# Altium footprint library Altium LCOGT PCB LIB.PCBLIB: 329 footprints (part 17 of 21)
Each footprint in its own frame and in the unit in brackets; x right, y up, seen from the top. Pads: shape width x height; smd on the part's side, far side on the other; paste and mask are expansions set on the pad; w line width, h text height; cw(c..) or ccw(c..) is an arc to the next point about the centre after c.
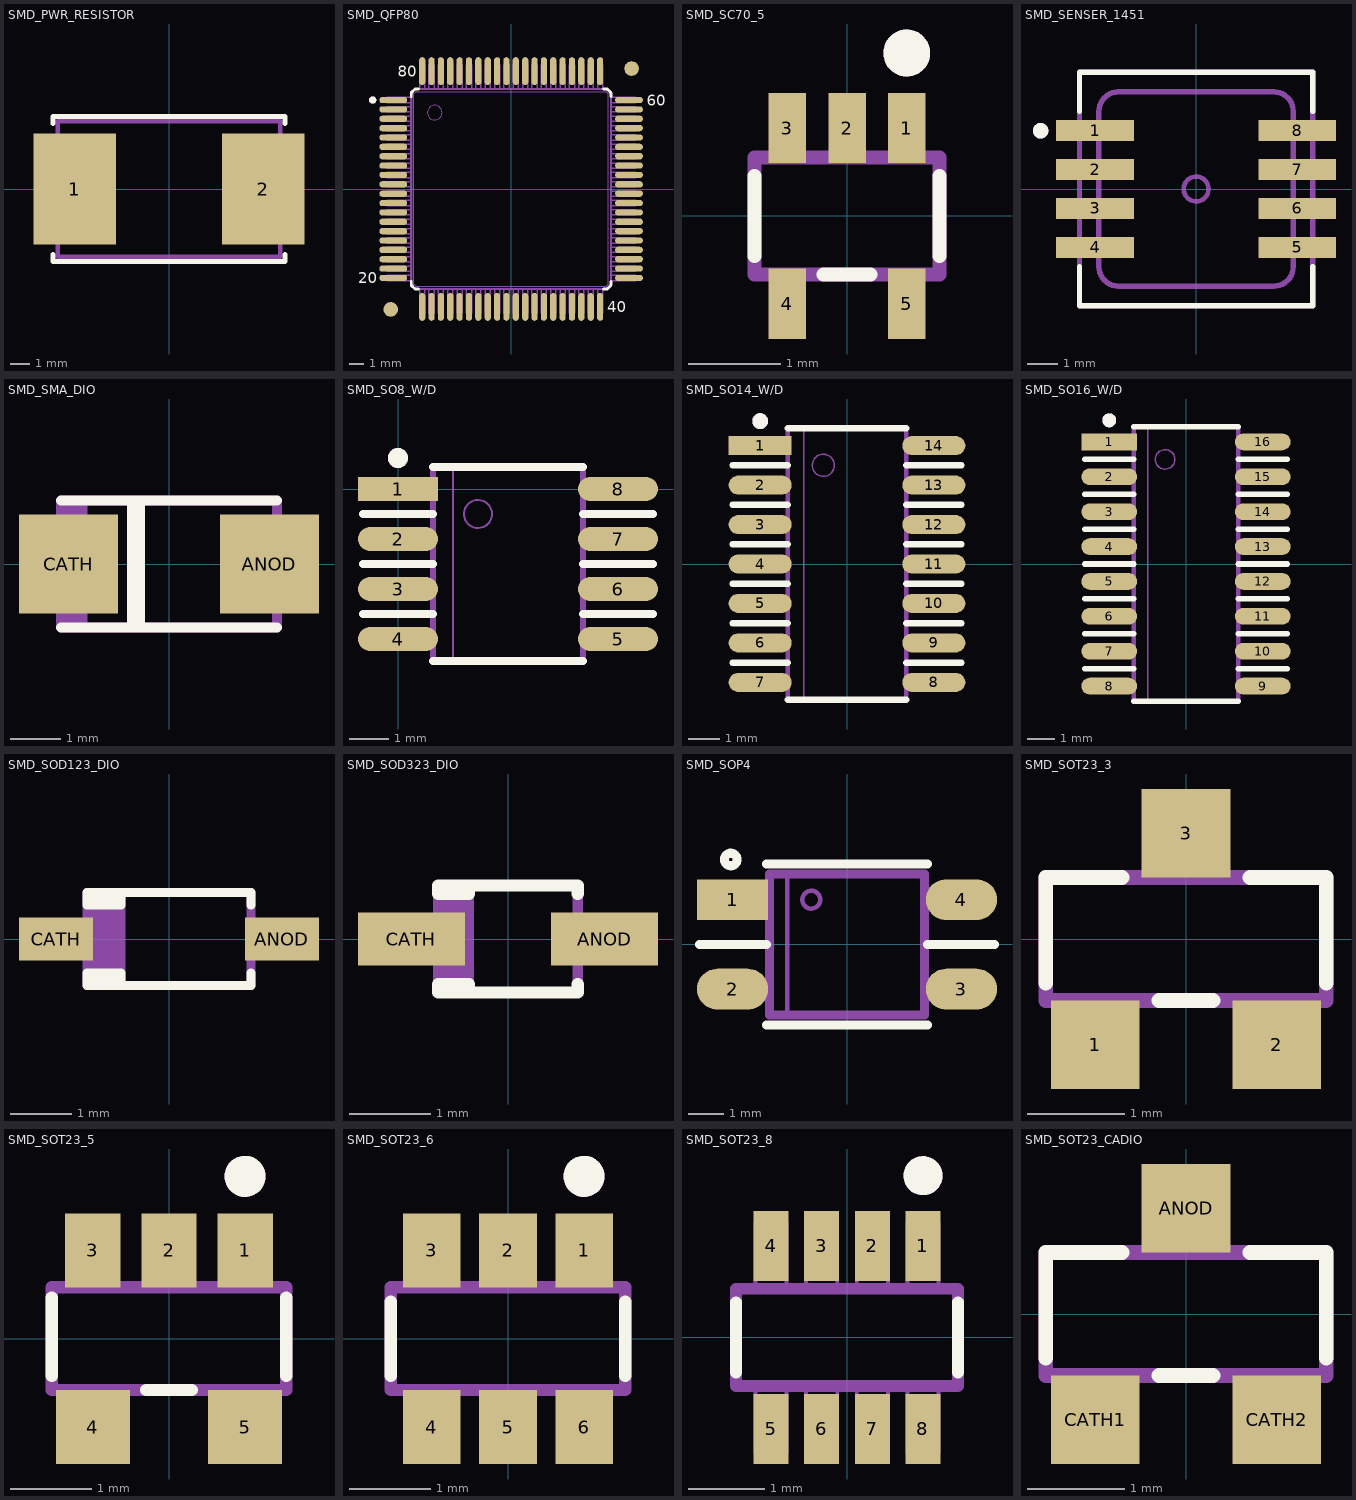
[diagram p16: the footprints below, top view; thin cyan lines are the x and y axes]

## SMD_PWR_RESISTOR [mil]
pads (2):
  rect 170x230 smd: 1(-195,0) 2(195,0)
TopOverlay:
  lines w10: -240,-135 -240,-150 240,-150 240,-135 ; -240,135 -240,150 240,150 240,135
Mechanical3:
  lines w10: -230,-140 -230,140 0,140 230,140 230,-140 -230,-140

## SMD_QFP80 [mil]
pads (82):
  oval 76x17 smd: 1(-321,242.25) 2(-321,216.75) 3(-321,191.25) 4(-321,165.75) 5(-321,140.25) 6(-321,114.75) 7(-321,89.25) 8(-321,63.75) 9(-321,38.25) 10(-321,12.75) 11(-321,-12.75) 12(-321,-38.25) 13(-321,-63.75) 14(-321,-89.25) 15(-321,-114.75) 16(-321,-140.25) 17(-321,-165.75) 18(-321,-191.25) 19(-321,-216.75) 20(-321,-242.25) 41(321,-242.25) 42(321,-216.75) 43(321,-191.25) 44(321,-165.75) 45(321,-140.25) 46(321,-114.75) 47(321,-89.25) 48(321,-63.75) 49(321,-38.25) 50(321,-12.75) 51(321,12.75) 52(321,38.25) 53(321,63.75) 54(321,89.25) 55(321,114.75) 56(321,140.25) 57(321,165.75) 58(321,191.25) 59(321,216.75) 60(321,242.25)
  oval 17x76 smd: 21(-242.25,-321) 22(-216.75,-321) 23(-191.25,-321) 24(-165.75,-321) 25(-140.25,-321) 26(-114.75,-321) 27(-89.25,-321) 28(-63.75,-321) 29(-38.25,-321) 30(-12.75,-321) 31(12.75,-321) 32(38.25,-321) 33(63.75,-321) 34(89.25,-321) 35(114.75,-321) 36(140.25,-321) 37(165.75,-321) 38(191.25,-321) 39(216.75,-321) 40(242.25,-321) 61(242.25,321) 62(216.75,321) 63(191.25,321) 64(165.75,321) 65(140.25,321) 66(114.75,321) 67(89.25,321) 68(63.75,321) 69(38.25,321) 70(12.75,321) 71(-12.75,321) 72(-38.25,321) 73(-63.75,321) 74(-89.25,321) 75(-114.75,321) 76(-140.25,321) 77(-165.75,321) 78(-191.25,321) 79(-216.75,321) 80(-242.25,321)
  round 40 smd: ""(-328,-328) ""(328,328)
TopOverlay:
  circle w8: c-377,242.25 r6
  lines w8: -381,242.25 -373,242.25 ; -377,238.25 -377,246.25 ; -272,-252 -272,-262 -262,-272 -252,-272 ; -272,252 -272,262 -262,272 -252,272 ; 252,-272 262,-272 272,-262 272,-252 ; 252,272 262,272 272,262 272,252
  text "20" at -417,-257 h30
  text "80" at -309,306 h30
  text "40" at 262,-336 h30
  text "60" at 370,227 h30
Mechanical3:
  drawing of 428 lines, arcs and shapes, not listed

## SMD_SC70_5 [mil]
pads (5):
  rect 16x30 smd: 1(25.5,37.5) 2(0,37.5) 3(-25.5,37.5) 4(-25.5,-37.5) 5(25.5,-37.5)
TopOverlay:
  circle w8: c25.5,69.5 r6
  lines w6: -39.5,-17 -39.5,17 ; -10,-25 10,-25 ; 39.5,-17 39.5,17
  lines w8: 21.5,69.5 29.5,69.5 ; 25.5,65.5 25.5,73.5
Mechanical3:
  circle w8: c25.5,69.5 r6
  lines w2: -31.5,-37.5 -19.5,-37.5 ; -31.5,-25 -31.5,-47 -19.5,-47 -19.5,-25 ; -31.5,25 -31.5,47 -19.5,47 -19.5,25 ; -31.5,37.5 -19.5,37.5 ; -28,-32.5 -23,-32.5 ; -28,32.5 -23,32.5 ; -6,25 -6,47 6,47 6,25 ; -6,37.5 6,37.5 ; -2.5,32.5 2.5,32.5 ; 19.5,-37.5 31.5,-37.5 ; 19.5,-25 19.5,-47 31.5,-47 31.5,-25 ; 19.5,25 19.5,47 31.5,47 31.5,25 ; 19.5,37.5 31.5,37.5 ; 23,-32.5 28,-32.5 ; 23,32.5 28,32.5
  lines w6: -39.5,-25 -39.5,25 39.5,25 39.5,-25 -39.5,-25
  lines w8: 21.5,69.5 29.5,69.5 ; 25.5,65.5 25.5,73.5

## SMD_SENSER_1451 [mil]
pads (8):
  rect 100x27 smd: 1(-130,75) 2(-130,25) 3(-130,-25) 4(-130,-75) 5(130,-75) 6(130,-25) 7(130,25) 8(130,75)
TopOverlay:
  circle w8: c-200,75 r6
  lines w7: -150,-100 -150,-150 150,-150 150,-100 ; -150,100 -150,150 150,150 150,100
  lines w8: -204,75 -196,75 ; -200,71 -200,79
Mechanical3:
  circle w6: c0,0 r16
  circle w8: c-200,75 r6
  lines w7: -150,-150 -150,-82.5 ccw(c-150,-75) -150,-67.5 -150,-32.5 ccw(c-150,-25) -150,-17.5 -150,17.5 ccw(c-150,25) -150,32.5 -150,67.5 ccw(c-150,75) -150,82.5 -150,150 150,150 150,82.5 ccw(c150,75) 150,67.5 150,32.5 ccw(c150,25) 150,17.5 150,-17.5 ccw(c150,-25) 150,-32.5 150,-67.5 ccw(c150,-75) 150,-82.5 150,-150 -150,-150 ; -125,-100 ccw(c-100,-100) -100,-125 100,-125 ccw(c100,-100) 125,-100 125,100 ccw(c100,100) 100,125 -100,125 ccw(c-100,100) -125,100 -125,-100
  lines w8: -204,75 -196,75 ; -200,71 -200,79

## SMD_SMA_DIO [mil]
pads (2):
  rect 78x78 smd: ANOD(79,0) CATH(-79,0)
TopOverlay:
  lines w8: -85,-50 85,-50 ; -85,50 85,50 ; -29,-50 -29,50 ; -23,-50 -23,50
Mechanical3:
  lines w4: -85,-29 -100,-29 -100,29 -85,29 ; 85,-29 100,-29 100,29 85,29
  lines w8: -80,-49 -80,50 ; -76,-50 -76,50 ; -72,-50 -72,50 ; -68,-50 -68,50 ; -85,-50 -85,50 85,50 85,-50 -85,-50

## SMD_SO8_W/D [mil]
pads (8):
  rect 80x24 smd: 1(0,0)
  oval 80x24 smd: 2(0,-50) 3(0,-100) 4(0,-150) 5(220,-150) 6(220,-100) 7(220,-50) 8(220,0)
TopOverlay:
  circle w8: c0,31 r6
  lines w8: -35,-125 35,-125 ; -35,-75 35,-75 ; -35,-25 35,-25 ; -4,31 4,31 ; 0,27 0,35 ; 35,-172 185,-172 ; 35,22 185,22 ; 185,-125 255,-125 ; 185,-75 255,-75 ; 185,-25 255,-25
Mechanical3:
  circle w2: c80,-25 r14
  circle w8: c0,31 r6
  lines w2: 20,-153 20,-147 ; 20,-103 20,-97 ; 20,-53 20,-47 ; 20,-3 20,3 ; 55,-172 55,22 ; 200,-153 200,-147 ; 200,-103 200,-97 ; 200,-53 200,-47 ; 200,-3 200,3
  lines w4: 10,-158 10,-142 ; 10,-108 10,-92 ; 10,-58 10,-42 ; 10,-8 10,8 ; 35,-158 -10,-158 -10,-142 35,-142 ; 35,-108 -10,-108 -10,-92 35,-92 ; 35,-58 -10,-58 -10,-42 35,-42 ; 35,-8 -10,-8 -10,8 35,8 ; 185,-158 230,-158 230,-142 185,-142 ; 185,-108 230,-108 230,-92 185,-92 ; 185,-58 230,-58 230,-42 185,-42 ; 185,-8 230,-8 230,8 185,8 ; 210,-158 210,-142 ; 210,-108 210,-92 ; 210,-58 210,-42 ; 210,-8 210,8
  lines w6: 35,-172 35,22 185,22 185,-172 35,-172
  lines w8: -4,31 4,31 ; 0,27 0,35

## SMD_SO14_W/D [mil]
pads (14):
  rect 80x24 smd: 1(-110,150)
  oval 80x24 smd: 2(-110,100) 3(-110,50) 4(-110,0) 5(-110,-50) 6(-110,-100) 7(-110,-150) 8(110,-150) 9(110,-100) 10(110,-50) 11(110,0) 12(110,50) 13(110,100) 14(110,150)
TopOverlay:
  circle w8: c-110,181 r6
  lines w8: -145,-125 -75,-125 ; -145,-75 -75,-75 ; -145,-25 -75,-25 ; -145,25 -75,25 ; -145,75 -75,75 ; -145,125 -75,125 ; -114,181 -106,181 ; -110,177 -110,185 ; -75,-172 75,-172 ; -75,172 75,172 ; 75,-125 145,-125 ; 75,-75 145,-75 ; 75,-25 145,-25 ; 75,25 145,25 ; 75,75 145,75 ; 75,125 145,125
Mechanical3:
  circle w2: c-30,125 r14
  circle w8: c-110,181 r6
  lines w2: -90,-153 -90,-147 ; -90,-103 -90,-97 ; -90,-53 -90,-47 ; -90,-3 -90,3 ; -90,47 -90,53 ; -90,97 -90,103 ; -90,147 -90,153 ; -55,-172 -55,172 ; 90,-153 90,-147 ; 90,-103 90,-97 ; 90,-53 90,-47 ; 90,-3 90,3 ; 90,47 90,53 ; 90,97 90,103 ; 90,147 90,153
  lines w4: -100,-158 -100,-142 ; -100,-108 -100,-92 ; -100,-58 -100,-42 ; -100,-8 -100,8 ; -100,42 -100,58 ; -100,92 -100,108 ; -100,142 -100,158 ; -75,-158 -120,-158 -120,-142 -75,-142 ; -75,-108 -120,-108 -120,-92 -75,-92 ; -75,-58 -120,-58 -120,-42 -75,-42 ; -75,-8 -120,-8 -120,8 -75,8 ; -75,42 -120,42 -120,58 -75,58 ; -75,92 -120,92 -120,108 -75,108 ; -75,142 -120,142 -120,158 -75,158 ; 75,-158 120,-158 120,-142 75,-142 ; 75,-108 120,-108 120,-92 75,-92 ; 75,-58 120,-58 120,-42 75,-42 ; 75,-8 120,-8 120,8 75,8 ; 75,42 120,42 120,58 75,58 ; 75,92 120,92 120,108 75,108 ; 75,142 120,142 120,158 75,158 ; 100,-158 100,-142 ; 100,-108 100,-92 ; 100,-58 100,-42 ; 100,-8 100,8 ; 100,42 100,58 ; 100,92 100,108 ; 100,142 100,158
  lines w6: -75,-172 75,-172 75,172 -75,172 -75,-172
  lines w8: -114,181 -106,181 ; -110,177 -110,185

## SMD_SO16_W/D [mil]
pads (16):
  rect 80x24 smd: 1(-110,175)
  oval 80x24 smd: 2(-110,125) 3(-110,75) 4(-110,25) 5(-110,-25) 6(-110,-75) 7(-110,-125) 8(-110,-175) 9(110,-175) 10(110,-125) 11(110,-75) 12(110,-25) 13(110,25) 14(110,75) 15(110,125) 16(110,175)
TopOverlay:
  circle w8: c-110,206 r6
  lines w8: -145,-150 -75,-150 ; -145,-100 -75,-100 ; -145,-50 -75,-50 ; -145,0 -75,0 ; -145,50 -75,50 ; -145,100 -75,100 ; -145,150 -75,150 ; -114,206 -106,206 ; -110,202 -110,210 ; -75,-197 75,-197 ; -75,197 75,197 ; 75,-150 145,-150 ; 75,-100 145,-100 ; 75,-50 145,-50 ; 75,0 145,0 ; 75,50 145,50 ; 75,100 145,100 ; 75,150 145,150
Mechanical3:
  circle w8: c-110,206 r6
  circle w2: c-30,150 r14
  lines w2: -90,-178 -90,-172 ; -90,-128 -90,-122 ; -90,-78 -90,-72 ; -90,-28 -90,-22 ; -90,22 -90,28 ; -90,72 -90,78 ; -90,122 -90,128 ; -90,172 -90,178 ; -55,-197 -55,197 ; 90,-178 90,-172 ; 90,-128 90,-122 ; 90,-78 90,-72 ; 90,-28 90,-22 ; 90,22 90,28 ; 90,72 90,78 ; 90,122 90,128 ; 90,172 90,178
  lines w4: -100,-183 -100,-167 ; -100,-133 -100,-117 ; -100,-83 -100,-67 ; -100,-33 -100,-17 ; -100,17 -100,33 ; -100,67 -100,83 ; -100,117 -100,133 ; -100,167 -100,183 ; -75,-183 -120,-183 -120,-167 -75,-167 ; -75,-133 -120,-133 -120,-117 -75,-117 ; -75,-83 -120,-83 -120,-67 -75,-67 ; -75,-33 -120,-33 -120,-17 -75,-17 ; -75,17 -120,17 -120,33 -75,33 ; -75,67 -120,67 -120,83 -75,83 ; -75,117 -120,117 -120,133 -75,133 ; -75,167 -120,167 -120,183 -75,183 ; 75,-183 120,-183 120,-167 75,-167 ; 75,-133 120,-133 120,-117 75,-117 ; 75,-83 120,-83 120,-67 75,-67 ; 75,-33 120,-33 120,-17 75,-17 ; 75,17 120,17 120,33 75,33 ; 75,67 120,67 120,83 75,83 ; 75,117 120,117 120,133 75,133 ; 75,167 120,167 120,183 75,183 ; 100,-183 100,-167 ; 100,-133 100,-117 ; 100,-83 100,-67 ; 100,-33 100,-17 ; 100,17 100,33 ; 100,67 100,83 ; 100,117 100,133 ; 100,167 100,183
  lines w6: -75,-197 75,-197 75,197 -75,197 -75,-197
  lines w8: -114,206 -106,206 ; -110,202 -110,210

## SMD_SOD123_DIO [mil]
pads (2):
  rect 48x28 smd: ANOD(73,0) CATH(-73,0)
TopOverlay:
  lines w6: -52,-26 -32,-26 ; -52,26 -32,26 ; -31,-30 -31,-22 -53,-22 -53,-30 53,-30 53,-22 ; -31,30 -31,22 -53,22 -53,30 53,30 53,22
Mechanical3:
  rectangle: -53,-30 -31,30
  lines w2: -64,-11 -64,11 ; -60,-4 -60,5 ; -53,-11 -73,-11 -73,11 -53,11 ; 53,-11 73,-11 73,11 53,11 ; 60,-4 60,5 ; 64,-11 64,11
  lines w6: -31,-30 -31,30 ; -53,-30 -53,30 53,30 53,-30 -53,-30

## SMD_SOD323_DIO [mil]
pads (2):
  rect 52x26 smd: ANOD(47,0) CATH(-47,0)
TopOverlay:
  lines w6: -33,24 -21,24 ; -32,-24 -20,-24 ; -19,-26 -19,-22 -34,-22 -34,-26 34,-26 34,-22 ; -19,26 -19,22 -34,22 -34,26 34,26 34,22
Mechanical3:
  rectangle: -34,-26 -19,26
  lines w2: -44,-6 -44,6 ; -40,-2 -40,2 ; -34,-6 -50,-6 -50,6 -34,6 ; 34,-6 50,-6 50,6 34,6 ; 40,-2 40,2 ; 44,-6 44,6
  lines w5: -19,-26 -19,26 ; -34,-26 34,-26 34,26 -34,26 -34,-26

## SMD_SOP4 [mm]
pads (4):
  rect 2.024x1.162 smd: 1(-3.25,1.27)
  oval 2.024x1.162 smd: 2(-3.25,-1.27) 3(3.25,-1.27) 4(3.25,1.27)
TopOverlay:
  circle w0.254: c-3.302,2.413 r0.18
  lines w0.254: -4.191,0 -2.286,0 ; -2.286,-2.286 2.286,-2.286 ; -2.286,2.286 2.286,2.286 ; 2.286,0 4.191,0
Mechanical3:
  circle w0.127: c-1.016,1.27 r0.254
  lines w0.127: -1.7,-2 -1.7,2
  lines w0.254: -3,-1.1 -3,-1.5 ; -3,1.5 -3,1.1 ; -2.2,-1.5 -3,-1.5 ; -2.2,-1.1 -3.5,-1.1 -3.5,-1.5 -3,-1.5 ; -2.2,1.1 -3,1.1 ; -2.2,1.5 -3.5,1.5 -3.5,1.1 -3,1.1 ; 2.2,-1.5 3,-1.5 ; 2.2,-1.1 3.5,-1.1 3.5,-1.5 3,-1.5 ; 2.2,1.1 3,1.1 ; 2.2,1.5 3.5,1.5 3.5,1.1 3,1.1 ; 3,-1.1 3,-1.5 ; 3,1.5 3,1.1 ; -2.2,-2 2.2,-2 2.2,2 -2.2,2 -2.2,0 -2.2,-2

## SMD_SOT23_3 [mil]
pads (3):
  rect 36x36 smd: 1(-37,-43) 2(37,-43) 3(0,43)
TopOverlay:
  lines w6: -57,-18 -57,25 -26,25 ; -11,-25 11,-25 ; 26,25 57,25 57,-18
Mechanical3:
  lines w2: -46,-40 -28,-40 ; -46,-25 -46,-47 -28,-47 -28,-25 ; -41,-34 -33,-34 ; -9,25 -9,47 9,47 9,25 ; -9,40 9,40 ; -4,34 4,34 ; 28,-40 46,-40 ; 28,-25 28,-47 46,-47 46,-25 ; 33,-34 41,-34
  lines w6: -57,-25 57,-25 57,25 -57,25 -57,-25

## SMD_SOT23_5 [mil]
pads (5):
  rect 27x36 smd: 1(37,43) 2(0,43) 3(-37,43)
  rect 36x36 smd: 4(-37,-43) 5(37,-43)
TopOverlay:
  circle w8: c37,79 r6
  lines w6: -57,-18 -57,20 ; -11,-25 11,-25 ; 57,-18 57,20
  lines w8: 33,79 41,79 ; 37,75 37,83
Mechanical3:
  circle w8: c37,79 r6
  lines w2: -46,-40 -28,-40 ; -46,-25 -46,-47 -28,-47 -28,-25 ; -46,25 -46,47 -28,47 -28,25 ; -46,40 -28,40 ; -41,-34 -33,-34 ; -41,34 -33,34 ; -9,25 -9,47 9,47 9,25 ; -9,40 9,40 ; -4,34 4,34 ; 28,-40 46,-40 ; 28,-25 28,-47 46,-47 46,-25 ; 28,25 28,47 46,47 46,25 ; 28,40 46,40 ; 33,-34 41,-34 ; 33,34 41,34
  lines w6: -57,-25 -57,25 57,25 57,-25 -57,-25
  lines w8: 33,79 41,79 ; 37,75 37,83

## SMD_SOT23_6 [mil]
pads (6):
  rect 28x36 smd: 1(37,43) 2(0,43) 3(-37,43) 4(-37,-43) 5(0,-43) 6(37,-43)
TopOverlay:
  circle w8: c37,79 r6
  lines w6: -57,-18 -57,18 ; 57,-18 57,18
  lines w8: 33,79 41,79 ; 37,75 37,83
Mechanical3:
  circle w8: c37,79 r6
  lines w2: -46,-40 -28,-40 ; -46,-25 -46,-47 -28,-47 -28,-25 ; -46,25 -46,47 -28,47 -28,25 ; -46,40 -28,40 ; -41,-34 -33,-34 ; -41,34 -33,34 ; -9,-40 9,-40 ; -9,-25 -9,-47 9,-47 9,-25 ; -9,25 -9,47 9,47 9,25 ; -9,40 9,40 ; -4,-34 4,-34 ; -4,34 4,34 ; 28,-40 46,-40 ; 28,-25 28,-47 46,-47 46,-25 ; 28,25 28,47 46,47 46,25 ; 28,40 46,40 ; 33,-34 41,-34 ; 33,34 41,34
  lines w6: -57,-25 -57,25 57,25 57,-25 -57,-25
  lines w8: 33,79 41,79 ; 37,75 37,83

## SMD_SOT23_8 [mil]
pads (8):
  rect 18x36 smd: 1(39,47) 2(13,47) 3(-13,47) 4(-39,47) 5(-39,-47) 6(-13,-47) 7(13,-47) 8(39,-47)
TopOverlay:
  circle w8: c39,83 r6
  lines w6: -57,-18 -57,18 ; 57,-18 57,18
  lines w8: 35,83 43,83 ; 39,79 39,87
Mechanical3:
  circle w8: c39,83 r6
  lines w2: -47,-45 -31,-45 ; -47,-25 -47,-59 -31,-59 -31,-25 ; -47,25 -47,59 -31,59 -31,25 ; -47,45 -31,45 ; -43,-36 -35,-36 ; -43,36 -35,36 ; -21,-45 -5,-45 ; -21,-25 -21,-59 -5,-59 -5,-25 ; -21,25 -21,59 -5,59 -5,25 ; -21,45 -5,45 ; -17,-36 -9,-36 ; -17,36 -9,36 ; 5,-45 21,-45 ; 5,-25 5,-59 21,-59 21,-25 ; 5,25 5,59 21,59 21,25 ; 5,45 21,45 ; 9,-36 17,-36 ; 9,36 17,36 ; 31,-45 47,-45 ; 31,-25 31,-59 47,-59 47,-25 ; 31,25 31,59 47,59 47,25 ; 31,45 47,45 ; 35,-36 43,-36 ; 35,36 43,36
  lines w6: -57,-25 57,-25 57,25 -57,25 -57,-25
  lines w8: 35,83 43,83 ; 39,79 39,87

## SMD_SOT23_CADIO [mil]
pads (3):
  rect 36x36 smd: ANOD(0,43) CATH1(-37,-43) CATH2(37,-43)
TopOverlay:
  lines w6: -57,-18 -57,25 -26,25 ; -11,-25 11,-25 ; 26,25 57,25 57,-18
Mechanical3:
  lines w2: -46,-40 -28,-40 ; -46,-25 -46,-47 -28,-47 -28,-25 ; -41,-34 -33,-34 ; -9,25 -9,47 9,47 9,25 ; -9,40 9,40 ; -4,34 4,34 ; 28,-40 46,-40 ; 28,-25 28,-47 46,-47 46,-25 ; 33,-34 41,-34
  lines w6: -57,-25 57,-25 57,25 -57,25 -57,-25